# EAGLE library part USB_OTG (library libami)
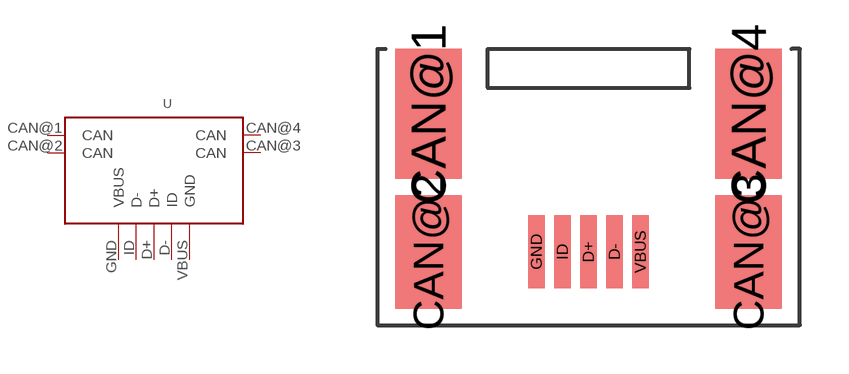
[diagram p10: symbol with the pads of USB_OTG; footprint USB_OTG]

Designator prefix -

## USB_OTG  [USB_OTG]
CAN@1  CAN
CAN@2  CAN
CAN@3  CAN
CAN@4  CAN
D+  D+
D-  ID
GND  VBUS
ID  D-
VBUS  GND

## Footprint USB_OTG (pad centres in mm)
smd 2.05 x 4: CAN@1 -4.925,4.25; CAN@4 4.925,4.25
smd 2.05 x 3.5: CAN@2 -4.925,0; CAN@3 4.925,0
smd 0.5 x 2.25: D+ 0,0; D- 0.8,0; GND -1.6,0; ID -0.8,0; VBUS 1.6,0